# Altium integrated library Analog Devices Clock Generation and Distribution.IntLib: 120 symbols (part 16 of 18)
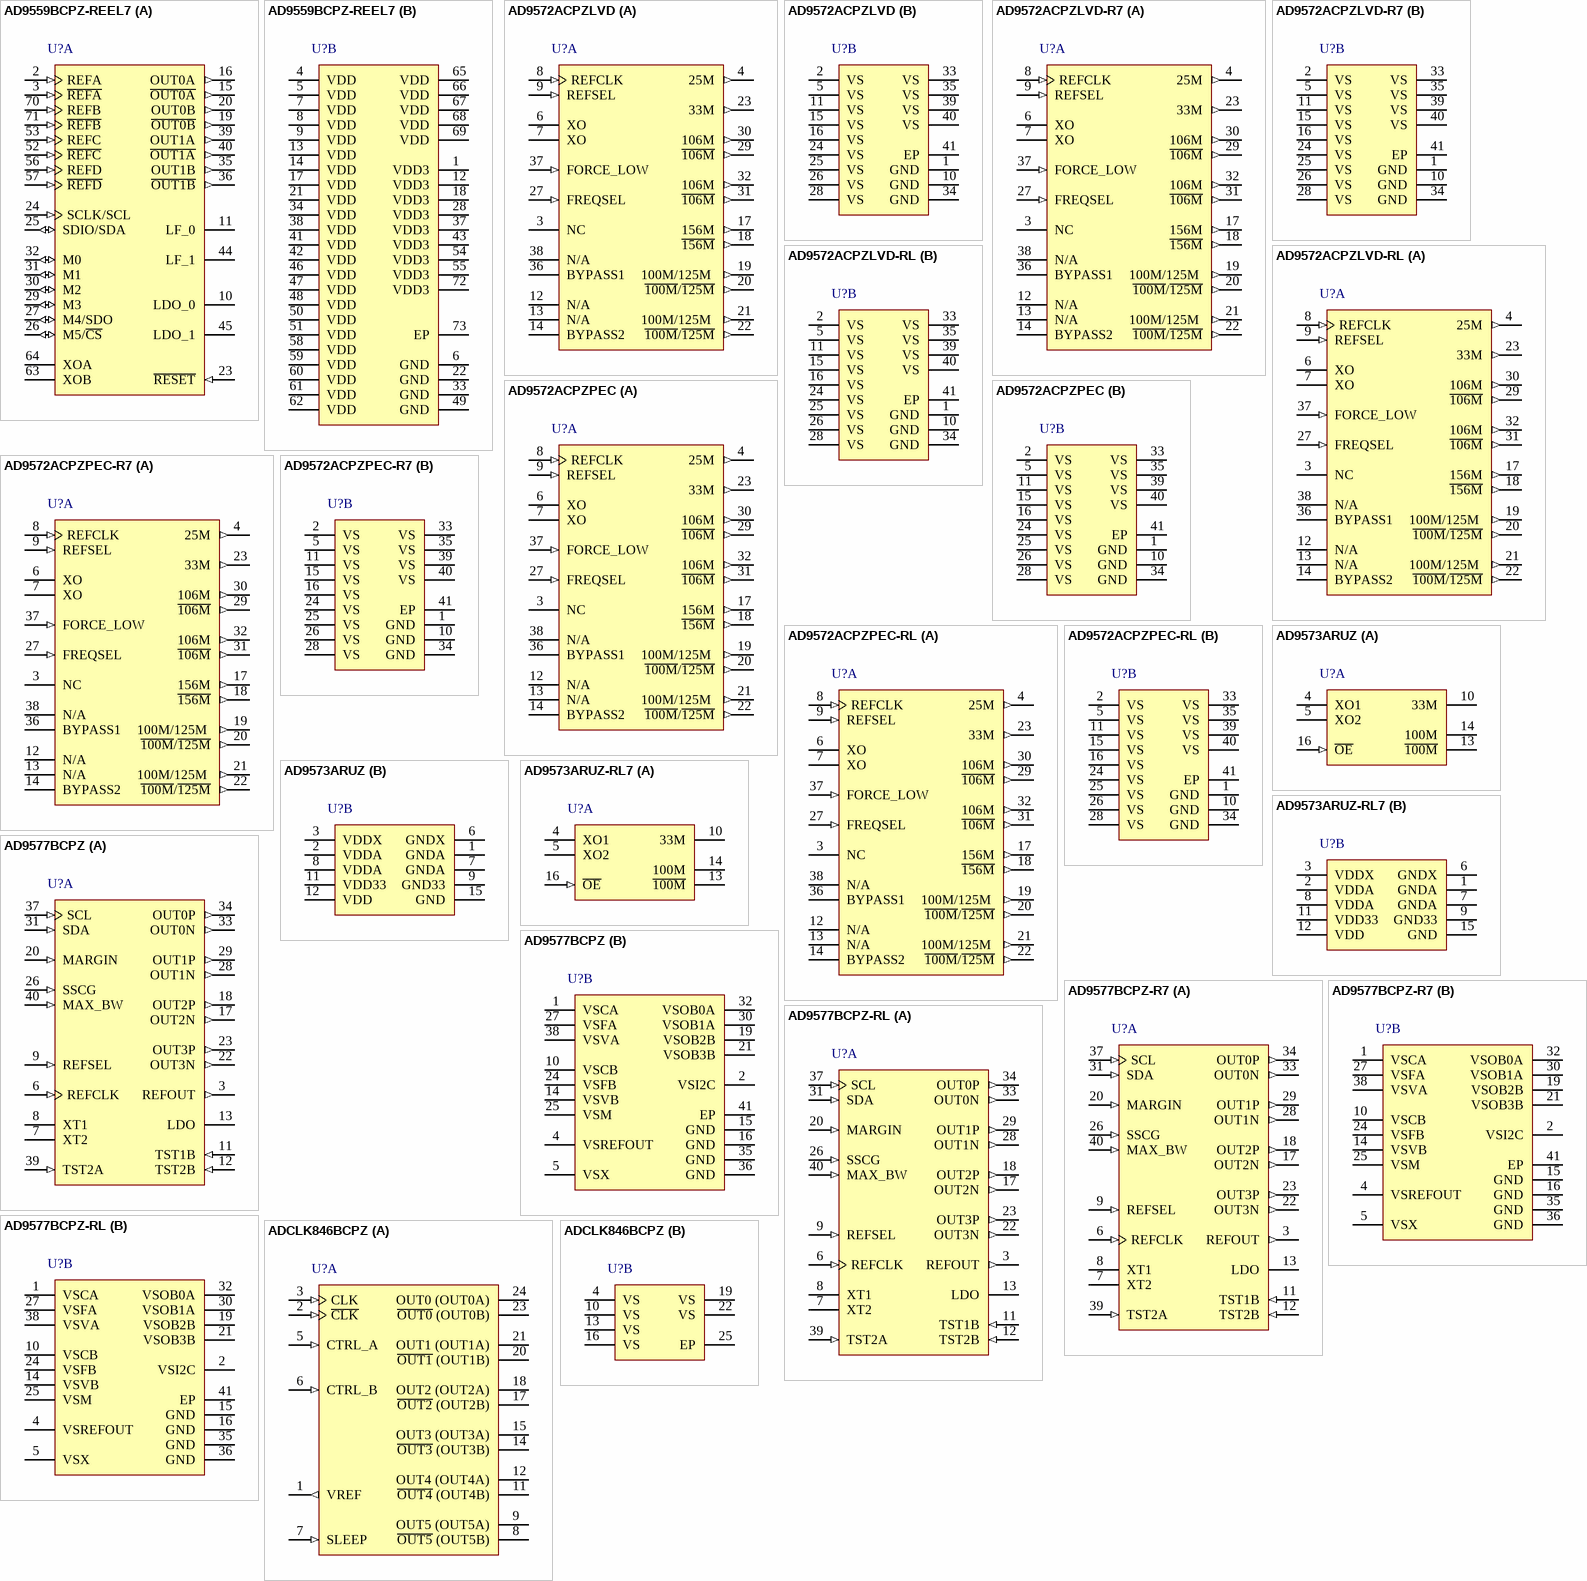
[diagram p27: symbols AD9559BCPZ-REEL7 to ADCLK846BCPZ]

## AD9559BCPZ-REEL7
designator U?
Dual PLL, Quad Input, Multiservice Line Card Adaptive Clock Translator, 3.3 V Supply, Industrial, 72-pin QFN (CP-72-4), Reel; Manufacturer: Analog Devices; PartNumber: AD9559BCPZ-REEL7; # of Inputs: 4; # of Outputs: 8; Supply Voltage (V): 3.3; I/O Interface: Serial; Max f-out: 1.25 GHz; Output Logic: CMOS, LVDS, HSTL; DatasheetVersion: Rev. A; PackageVersion: 06-25-2012-A, 06/2012; PackageReference: CP-72-4; PackageDescription: 72-Pin Lead Frame Chip Scale Package, Body 10 x 10 mm, Pitch 0.5 mm; Supplier 1: Digi-Key; Supplier Part Number 1: AD9559BCPZ-REEL7-ND; Supplier 2: Newark; Supplier Part Number 2: 43W5570; Supplier 3: Mouser; Supplier Part Number 3: 584-AD9559BCPZ-R7; Packing: Reel; Mounting Technology: Surface Mount; Code_JEDEC: MO-220-VNND-4; ComponentLink1Description: Manufacturer URL; ComponentLink1URL: http://www.analog.com/en/index.html; ComponentLink2Description: Datasheet; ComponentLink2URL: http://www.analog.com/static/imported-files/data_sheets/AD9559.pdf; ComponentLink3Description: Package Specification; ComponentLink3URL: http://www.analog.com/static/imported-files/packages/PKG_PDF/LFCSP(CP)/CP_72_4.pdf; ComponentLink4Description: Product URL; ComponentLink4URL: http://www.analog.com/en/clock-and-timing/clock-generation-and-distribution/ad9559/products/product.html
footprint ADI-CP-72-4_N (QFN, 72-Leads, Body 10x10mm, Pitch 0.5mm, Thermal Pad 7.1x7.1mm, IPC Medium Density)
footprint ADI-CP-72-4_L (QFN, 72-Leads, Body 10x10mm, Pitch 0.5mm, Thermal Pad 7.1x7.1mm, IPC High Density)
footprint ADI-CP-72-4_M (QFN, 72-Leads, Body 10x10mm, Pitch 0.5mm, Thermal Pad 7.1x7.1mm, IPC Low Density)
part A pins: 2 REFA (in) "Reference A Input. This internally biased input is typically ac-coupled; when configured in this manner, it can accept any differential signal with single-ended swing up to 3.3 V. If dc-coupled, input can be LVPECL, LVDS, or (See Datasheet)", 3 ~{REFA} (in) "Complementary Reference A Input. Complementary signal to the input provided on Pin 2.", 10 LDO_0 "Output PLL0 Loop Filter Voltage Regulator. Connect a 0.47 uF capacitor from this pin to ground. This pin is also the ac ground reference for the integrated output PLL external loop filter.", 11 LF_0 "Loop Filter Node for the Output PLL0. Connect an external 6.8 nF capacitor from this pin to Pin 10 (LDO_0).", 15 ~{OUT0A} (out) "PLL0 Complementary Output 0A. This output can be configured as HSTL, LVDS, or single-ended 1.8 V CMOS.", 16 OUT0A (out) "PLL0 Output 0A. This output can be configured as HSTL, LVDS, or single-ended 1.8 V CMOS. LVPECL levels can be achieved by ac-coupling and using the Thevenin-equivalent termination as described in the Input/Output Termination (See Datasheet)", 19 ~{OUT0B} (out) "PLL0 Complementary Output 0B. This output can be configured as HSTL, LVDS, or single-ended 1.8 V or 3.3 V CMOS.", 20 OUT0B (out) "PLL0 Output 0B. This output can be configured as HSTL, LVDS, or single-ended 1.8 V or 3.3 V CMOS. LVPECL levels can be achieved by ac-coupling and using the Thevenin-equivalent termination as described in the Input/Output (See Datasheet)", 23 ~{RESET} (in) "Chip Reset. When this active low pin is asserted, the chip goes into reset. This pin has an internal 50 k ohm pull-up resistor.", 24 SCLK/SCL (in) "Serial Programming Clock in SPI Mode (SCLK). Data clock for serial programming. Serial Clock Pin in I2C Mode (SCL).", 25 SDIO/SDA (io) "Serial Data Input/Output (SDIO). When the device is in 4-wire SPI mode, data is written via this pin. In 3-wire SPI mode, data reads and writes both occur on this pin. There is no internal pull-up/pull-down resistor on this (See Datasheet)", 26 M5/~{CS} (io) "Configurable I/O Pin (M5). Used for status and control of the AD9559. Chip Select in SPI Mode (CS). Active low input. When programming a device in SPI, this pin must be held low. In systems where more than one AD9559 is (See Datasheet)", 27 M4/SDO (io) "Configurable I/O Pin (M4). Used for status and control of the AD9559. Serial Data Output (SDO). In 4-wire SPI mode, this pin is used for reading serial data.", 29 M3 (io) "Configurable I/O Pins. These pins are used for status and control of the AD9559.These pins are also used at power-up and reset to control the serial port configuration and EEPROM loading. See Table 23 and Table 25 for more (See Datasheet)", 30 M2 (io) "Configurable I/O Pins. These pins are used for status and control of the AD9559.These pins are also used at power-up and reset to control the serial port configuration and EEPROM loading. See Table 23 and Table 25 for more (See Datasheet)", 31 M1 (io) "Configurable I/O Pins. These pins are used for status and control of the AD9559.These pins are also used at power-up and reset to control the serial port configuration and EEPROM loading. See Table 23 and Table 25 for more (See Datasheet)", 32 M0 (io) "Configurable I/O Pins. These pins are used for status and control of the AD9559.These pins are also used at power-up and reset to control the serial port configuration and EEPROM loading. See Table 23 and Table 25 for more (See Datasheet)", 35 OUT1B (out) "PLL1 Output 1B. This output can be configured as HSTL, LVDS, or single-ended 1.8 V or 3.3 V CMOS. LVPECL levels can be achieved by ac-coupling and using the Thevenin-equivalent termination as described in the Input/Output (See Datasheet)", 36 ~{OUT1B} (out) "PLL1 Complementary Output 1B. This output can be configured as HSTL, LVDS, or single-ended 1.8 V or 3.3 V CMOS.", 39 OUT1A (out) "PLL1 Output 1A. This output can be configured as HSTL, LVDS, or single-ended 1.8 V CMOS. LVPECL levels can be achieved by ac-coupling and using the Thevenin-equivalent termination as described in the Input/Output Termination (See Datasheet)", 40 ~{OUT1A} (out) "PLL1 Complementary Output 1A. This output can be configured as HSTL, LVDS, or single-ended 1.8 V CMOS.", 44 LF_1 "Loop Filter Node for the Output PLL1. Connect an external 6.8 nF capacitor from this pin to Pin 45 (LDO_1).", 45 LDO_1 "Output PLL1 Loop Filter Voltage Regulator. Connect a 0.47 uF capacitor from this pin to ground. This pin is also the ac ground reference for the integrated output PLL external loop filter.", 52 ~{REFC} (in) "Complementary Reference C Input. Complementary signal to the input provided on Pin 53.", 53 REFC (in) "Reference C Input. This internally biased input is typically ac-coupled; when configured in that manner, it can accept any differential signal with single-ended swing up to 3.3 V. If dc-coupled, input can be LVPECL, LVDS, or (See Datasheet)", 56 REFD (in) "Complementary Reference D Input. Complementary signal to the input provided on Pin 57.", 57 ~{REFD} (in) "Reference D Input. This internally biased input is typically ac-coupled; when configured in this manner, it can accept any differential signal with single-ended swing up to 3.3 V. If dc-coupled, input can be LVPECL, LVDS, or (See Datasheet)", 63 XOB "Complementary System Clock Input. Complementary signal to XOA. XOB contains internal dc biasing and should be ac-coupled with a 0.1 uF capacitor except when using a crystal. When a crystal is used, connect the crystal across (See Datasheet)", 64 XOA "System Clock Input. XOA contains internal dc biasing and should be ac-coupled with a 0.01 uF capacitor except when using a crystal. When a crystal is used, connect the crystal across XOA and XOB. Single-ended 1.8 V CMOS is (See Datasheet)", 70 REFB (in) "Reference B Input. This internally biased input is typically ac-coupled; when configured in this manner, it can accept any differential signal with single-ended swing up to 3.3 V. If dc-coupled, input can be LVPECL, LVDS, or (See Datasheet)", 71 ~{REFB} (in) "Complementary Reference B Input. Complementary signal to the input provided on Pin 70."
part B pins: 1 VDD3 (power) "3.3 V Power Supply. See the Power Supply Partitions section for information about the recommended grouping of the power supply pins.", 4 VDD (power) "1.8 V Power Supply. See the Power Supply Partitions section for information about the recommended grouping of the power supply pins. Note that, for Pin 34 and Pin 21, it is recommended that a Size 0201, 0.1 uF bypass (See Datasheet)", 5 VDD (power) "1.8 V Power Supply. See the Power Supply Partitions section for information about the recommended grouping of the power supply pins. Note that, for Pin 34 and Pin 21, it is recommended that a Size 0201, 0.1 uF bypass (See Datasheet)", 6 GND (power) "Connect these pins (along with the exposed die pad) to ground.", 7 VDD (power) "1.8 V Power Supply. See the Power Supply Partitions section for information about the recommended grouping of the power supply pins. Note that, for Pin 34 and Pin 21, it is recommended that a Size 0201, 0.1 uF bypass (See Datasheet)", 8 VDD (power) "1.8 V Power Supply. See the Power Supply Partitions section for information about the recommended grouping of the power supply pins. Note that, for Pin 34 and Pin 21, it is recommended that a Size 0201, 0.1 uF bypass (See Datasheet)", 9 VDD (power) "1.8 V Power Supply. See the Power Supply Partitions section for information about the recommended grouping of the power supply pins. Note that, for Pin 34 and Pin 21, it is recommended that a Size 0201, 0.1 uF bypass (See Datasheet)", 12 VDD3 (power) "3.3 V Power Supply. See the Power Supply Partitions section for information about the recommended grouping of the power supply pins.", 13 VDD (power) "1.8 V Power Supply. See the Power Supply Partitions section for information about the recommended grouping of the power supply pins. Note that, for Pin 34 and Pin 21, it is recommended that a Size 0201, 0.1 uF bypass (See Datasheet)", 14 VDD (power) "1.8 V Power Supply. See the Power Supply Partitions section for information about the recommended grouping of the power supply pins. Note that, for Pin 34 and Pin 21, it is recommended that a Size 0201, 0.1 uF bypass (See Datasheet)", 17 VDD (power) "1.8 V Power Supply. See the Power Supply Partitions section for information about the recommended grouping of the power supply pins. Note that, for Pin 34 and Pin 21, it is recommended that a Size 0201, 0.1 uF bypass (See Datasheet)", 18 VDD3 (power) "3.3 V Power Supply. See the Power Supply Partitions section for information about the recommended grouping of the power supply pins.", 21 VDD (power) "1.8 V Power Supply. See the Power Supply Partitions section for information about the recommended grouping of the power supply pins. Note that, for Pin 34 and Pin 21, it is recommended that a Size 0201, 0.1 uF bypass (See Datasheet)", 22 GND (power) "Connect these pins (along with the exposed die pad) to ground.", 28 VDD3 (power) "3.3 V Power Supply. See the Power Supply Partitions section for information about the recommended grouping of the power supply pins.", 33 GND (power) "Connect these pins (along with the exposed die pad) to ground.", 34 VDD (power) "1.8 V Power Supply. See the Power Supply Partitions section for information about the recommended grouping of the power supply pins. Note that, for Pin 34 and Pin 21, it is recommended that a Size 0201, 0.1 uF bypass (See Datasheet)", 37 VDD3 (power) "3.3 V Power Supply. See the Power Supply Partitions section for information about the recommended grouping of the power supply pins.", 38 VDD (power) "1.8 V Power Supply. See the Power Supply Partitions section for information about the recommended grouping of the power supply pins. Note that, for Pin 34 and Pin 21, it is recommended that a Size 0201, 0.1 uF bypass (See Datasheet)", 41 VDD (power) "1.8 V Power Supply. See the Power Supply Partitions section for information about the recommended grouping of the power supply pins. Note that, for Pin 34 and Pin 21, it is recommended that a Size 0201, 0.1 uF bypass (See Datasheet)", 42 VDD (power) "1.8 V Power Supply. See the Power Supply Partitions section for information about the recommended grouping of the power supply pins. Note that, for Pin 34 and Pin 21, it is recommended that a Size 0201, 0.1 uF bypass (See Datasheet)", 43 VDD3 (power) "3.3 V Power Supply. See the Power Supply Partitions section for information about the recommended grouping of the power supply pins.", 46 VDD (power) "1.8 V Power Supply. See the Power Supply Partitions section for information about the recommended grouping of the power supply pins. Note that, for Pin 34 and Pin 21, it is recommended that a Size 0201, 0.1 uF bypass (See Datasheet)", 47 VDD (power) "1.8 V Power Supply. See the Power Supply Partitions section for information about the recommended grouping of the power supply pins. Note that, for Pin 34 and Pin 21, it is recommended that a Size 0201, 0.1 uF bypass (See Datasheet)", 48 VDD (power) "1.8 V Power Supply. See the Power Supply Partitions section for information about the recommended grouping of the power supply pins. Note that, for Pin 34 and Pin 21, it is recommended that a Size 0201, 0.1 uF bypass (See Datasheet)", 49 GND (power) "Connect these pins (along with the exposed die pad) to ground.", 50 VDD (power) "1.8 V Power Supply. See the Power Supply Partitions section for information about the recommended grouping of the power supply pins. Note that, for Pin 34 and Pin 21, it is recommended that a Size 0201, 0.1 uF bypass (See Datasheet)", 51 VDD (power) "1.8 V Power Supply. See the Power Supply Partitions section for information about the recommended grouping of the power supply pins. Note that, for Pin 34 and Pin 21, it is recommended that a Size 0201, 0.1 uF bypass (See Datasheet)", 54 VDD3 (power) "3.3 V Power Supply. See the Power Supply Partitions section for information about the recommended grouping of the power supply pins.", 55 VDD3 (power) "3.3 V Power Supply. See the Power Supply Partitions section for information about the recommended grouping of the power supply pins.", 58 VDD (power) "1.8 V Power Supply. See the Power Supply Partitions section for information about the recommended grouping of the power supply pins. Note that, for Pin 34 and Pin 21, it is recommended that a Size 0201, 0.1 uF bypass (See Datasheet)", 59 VDD (power) "1.8 V Power Supply. See the Power Supply Partitions section for information about the recommended grouping of the power supply pins. Note that, for Pin 34 and Pin 21, it is recommended that a Size 0201, 0.1 uF bypass (See Datasheet)", 60 VDD (power) "1.8 V Power Supply. See the Power Supply Partitions section for information about the recommended grouping of the power supply pins. Note that, for Pin 34 and Pin 21, it is recommended that a Size 0201, 0.1 uF bypass (See Datasheet)", 61 VDD (power) "1.8 V Power Supply. See the Power Supply Partitions section for information about the recommended grouping of the power supply pins. Note that, for Pin 34 and Pin 21, it is recommended that a Size 0201, 0.1 uF bypass (See Datasheet)", 62 VDD (power) "1.8 V Power Supply. See the Power Supply Partitions section for information about the recommended grouping of the power supply pins. Note that, for Pin 34 and Pin 21, it is recommended that a Size 0201, 0.1 uF bypass (See Datasheet)", 65 VDD (power) "1.8 V Power Supply. See the Power Supply Partitions section for information about the recommended grouping of the power supply pins. Note that, for Pin 34 and Pin 21, it is recommended that a Size 0201, 0.1 uF bypass (See Datasheet)", 66 VDD (power) "1.8 V Power Supply. See the Power Supply Partitions section for information about the recommended grouping of the power supply pins. Note that, for Pin 34 and Pin 21, it is recommended that a Size 0201, 0.1 uF bypass (See Datasheet)", 67 VDD (power) "1.8 V Power Supply. See the Power Supply Partitions section for information about the recommended grouping of the power supply pins. Note that, for Pin 34 and Pin 21, it is recommended that a Size 0201, 0.1 uF bypass (See Datasheet)", 68 VDD (power) "1.8 V Power Supply. See the Power Supply Partitions section for information about the recommended grouping of the power supply pins. Note that, for Pin 34 and Pin 21, it is recommended that a Size 0201, 0.1 uF bypass (See Datasheet)", 69 VDD (power) "1.8 V Power Supply. See the Power Supply Partitions section for information about the recommended grouping of the power supply pins. Note that, for Pin 34 and Pin 21, it is recommended that a Size 0201, 0.1 uF bypass (See Datasheet)", 72 VDD3 (power) "3.3 V Power Supply. See the Power Supply Partitions section for information about the recommended grouping of the power supply pins.", 73 EP (power) "The exposed pad is the ground connection on the chip. It must be soldered to the analog ground of the PCB to ensure proper functionality and heat dissipation, noise, and mechanical strength benefits."

## AD9572ACPZLVD
designator U?
7 Outputs Fiber Channel / Ethernet Clock Generator IC, PLL Core, Dividers, 3.3 V Supply, Industrial, 40-pin QFN (CP-40-7), Tray; Manufacturer: Analog Devices; PartNumber: AD9572ACPZLVD; # of Inputs: 1; # of Outputs: 7; Supply Voltage (V): 3.3; I/O Interface: Pin Select; Max f-out: 156.25 MHz; On-Chip VCO or DCO: Yes; Output Logic: LVDS, LVPECL, CMOS; DatasheetVersion: Rev. B; PackageVersion: 012909-B, 02/2009; PackageReference: CP-40-7; PackageDescription: 40-Pin Lead Frame Chip Scale Package, Body 6 x 6 mm, Pitch 0.5 mm; Supplier 1: Digi-Key; Supplier Part Number 1: AD9572ACPZLVD-ND; Supplier 2: Newark; Supplier Part Number 2: 26R2517; Supplier 3: Mouser; Supplier Part Number 3: 584-AD9572ACPZLVD; Packing: Tray; Mounting Technology: Surface Mount; Code_JEDEC: MO-220-WJJD; ComponentLink1Description: Manufacturer URL; ComponentLink1URL: http://www.analog.com/en/index.html; ComponentLink2Description: Datasheet; ComponentLink2URL: http://www.analog.com/static/imported-files/data_sheets/AD9572.pdf; ComponentLink3Description: Package Specification; ComponentLink3URL: http:/www.analog.com/static/imported-files/packages/PKG_PDF/LFCSP(CP)/CP-40/CP_40_7.pdf; ComponentLink4Description: Product URL; ComponentLink4URL: http://www.analog.com/en/clock-and-timing/clock-generation-and-distribution/ad9572/products/product.html
footprint ADI-CP-40-7_N (QFN, 40-Leads, Body 6x6mm, Pitch 0.5mm, Thermal Pad 4.6x4.6mm, IPC Medium Density)
footprint ADI-CP-40-7_L (QFN, 40-Leads, Body 6x6mm, Pitch 0.5mm, Thermal Pad 4.6x4.6mm, IPC High Density)
footprint ADI-CP-40-7_M (QFN, 40-Leads, Body 6x6mm, Pitch 0.5mm, Thermal Pad 4.6x4.6mm, IPC Low Density)
part A pins: 3 NC "No Connect. This pin should be left floating", 4 25M (out) "CMOS 25 MHz Output", 6 XO "External 25 MHz Crystal", 7 XO "External 25 MHz Crystal", 8 REFCLK (in) "25 MHz Reference Clock Input. Tie low when not in use", 9 REFSEL (in) "Logic Input. Used to select the reference source", 12 N/A "Short to Pin 14", 13 N/A "Short to Pin 14", 14 BYPASS2 "These pins are for bypassing each LDO to ground with a 220 nF capacitor", 17 156M (out) "LVPECL/LVDS Output at 156.25 MHz.", 18 ~{156M} (out) "Complementary LVPECL/LVDS Output at 156.25 MHz", 19 100M/125M  (out) "LVPECL/LVDS Output at 100 MHz or 125 MHz. Selected by FREQSEL pin strapping", 20 ~{100M}/~{125M} (out) "Complementary LVPECL/LVDS Output at 100 MHz or 125 MHz", 21 100M/125M  (out) "LVPECL/LVDS Output at 100 MHz or 125 MHz. Selected by FREQSEL pin strapping", 22 ~{100M}/~{125M} (out) "Complementary LVPECL/LVDS Output at 100 MHz or 125 MHz", 23 33M (out) "CMOS 33.33 MHz Output", 27 FREQSEL (in) "Logic Input. Used to configure output drivers", 29 ~{106M} (out) "LVPECL/LVDS Output at 106.25 MHz", 30 106M (out) "Complementary LVPECL/LVDS Output at 106.25 MHz", 31 ~{106M} (out) "LVPECL/LVDS Output at 106.25 MHz", 32 106M (out) "Complementary LVPECL/LVDS Output at 106.25 MHz", 36 BYPASS1 "These pins are for bypassing each LDO to ground with a 220 nF capacitor", 37 FORCE_LOW (in) "Forces the 33.33 MHz output into a low state", 38 N/A "Short to Pin 36"
part B pins: 1 GND (power) "Ground. Includes external paddle (EPAD)", 2 VS (power) "Power Supply Connection for the 25M CMOS Buffer", 5 VS (power) "Power Supply Connection for the Crystal Oscillator", 10 GND (power) "Ground. Includes external paddle (EPAD)", 11 VS (power) "Power Supply Connection for the GbE PLL", 15 VS (power) "Power Supply Connection for the GbE VCO", 16 VS (power) "Power Supply Connection for the 156M LVDS Output Buffer and Output Dividers", 24 VS (power) "Power Supply Connection for the 33M CMOS Output Buffer and Output Dividers", 25 VS (power) "Power Supply Connection for the 100M/125M LVDS Output Buffer and Output Dividers", 26 VS (power) "Power Supply Connection for the GbE PLL Feedback Divider", 28 VS (power) "Power Supply Connection for the FC PLL Feedback Divider", 33 VS (power) "Power Supply Connection for the 106.25 MHz LVDS Output Buffer and Output Dividers", 34 GND (power) "Ground. Includes external paddle (EPAD)", 35 VS (power) "Power Supply Connection for the FC VCO", 39 VS (power) "Power Supply Connection for the FC PLL", 40 VS (power) "Power Supply Connection for Miscellaneous Logic", 41 EP (power) "Exposed Pad"

## AD9572ACPZLVD-R7
designator U?
7 Outputs Fiber Channel / Ethernet Clock Generator IC, PLL Core, Dividers, 3.3 V Supply, Industrial, 40-pin QFN (CP-40-7), Reel; Manufacturer: Analog Devices; PartNumber: AD9572ACPZLVD-R7; # of Inputs: 1; # of Outputs: 7; Supply Voltage (V): 3.3; I/O Interface: Pin Select; Max f-out: 156.25 MHz; On-Chip VCO or DCO: Yes; Output Logic: LVDS, LVPECL, CMOS; DatasheetVersion: Rev. B; PackageVersion: 012909-B, 02/2009; PackageReference: CP-40-7; PackageDescription: 40-Pin Lead Frame Chip Scale Package, Body 6 x 6 mm, Pitch 0.5 mm; Supplier 1: Digi-Key; Supplier Part Number 1: AD9572ACPZLVD-R7-ND; Supplier 2: Mouser; Supplier Part Number 2: 584-AD9572ACPZLVD-R7; Packing: Reel; Mounting Technology: Surface Mount; Code_JEDEC: MO-220-WJJD; ComponentLink1Description: Manufacturer URL; ComponentLink1URL: http://www.analog.com/en/index.html; ComponentLink2Description: Datasheet; ComponentLink2URL: http://www.analog.com/static/imported-files/data_sheets/AD9572.pdf; ComponentLink3Description: Package Specification; ComponentLink3URL: http:/www.analog.com/static/imported-files/packages/PKG_PDF/LFCSP(CP)/CP-40/CP_40_7.pdf; ComponentLink4Description: Product URL; ComponentLink4URL: http://www.analog.com/en/clock-and-timing/clock-generation-and-distribution/ad9572/products/product.html
footprint ADI-CP-40-7_N (QFN, 40-Leads, Body 6x6mm, Pitch 0.5mm, Thermal Pad 4.6x4.6mm, IPC Medium Density)
footprint ADI-CP-40-7_L (QFN, 40-Leads, Body 6x6mm, Pitch 0.5mm, Thermal Pad 4.6x4.6mm, IPC High Density)
footprint ADI-CP-40-7_M (QFN, 40-Leads, Body 6x6mm, Pitch 0.5mm, Thermal Pad 4.6x4.6mm, IPC Low Density)
part A pins: 3 NC "No Connect. This pin should be left floating", 4 25M (out) "CMOS 25 MHz Output", 6 XO "External 25 MHz Crystal", 7 XO "External 25 MHz Crystal", 8 REFCLK (in) "25 MHz Reference Clock Input. Tie low when not in use", 9 REFSEL (in) "Logic Input. Used to select the reference source", 12 N/A "Short to Pin 14", 13 N/A "Short to Pin 14", 14 BYPASS2 "These pins are for bypassing each LDO to ground with a 220 nF capacitor", 17 156M (out) "LVPECL/LVDS Output at 156.25 MHz.", 18 ~{156M} (out) "Complementary LVPECL/LVDS Output at 156.25 MHz", 19 100M/125M  (out) "LVPECL/LVDS Output at 100 MHz or 125 MHz. Selected by FREQSEL pin strapping", 20 ~{100M}/~{125M} (out) "Complementary LVPECL/LVDS Output at 100 MHz or 125 MHz", 21 100M/125M  (out) "LVPECL/LVDS Output at 100 MHz or 125 MHz. Selected by FREQSEL pin strapping", 22 ~{100M}/~{125M} (out) "Complementary LVPECL/LVDS Output at 100 MHz or 125 MHz", 23 33M (out) "CMOS 33.33 MHz Output", 27 FREQSEL (in) "Logic Input. Used to configure output drivers", 29 ~{106M} (out) "LVPECL/LVDS Output at 106.25 MHz", 30 106M (out) "Complementary LVPECL/LVDS Output at 106.25 MHz", 31 ~{106M} (out) "LVPECL/LVDS Output at 106.25 MHz", 32 106M (out) "Complementary LVPECL/LVDS Output at 106.25 MHz", 36 BYPASS1 "These pins are for bypassing each LDO to ground with a 220 nF capacitor", 37 FORCE_LOW (in) "Forces the 33.33 MHz output into a low state", 38 N/A "Short to Pin 36"
part B pins: 1 GND (power) "Ground. Includes external paddle (EPAD)", 2 VS (power) "Power Supply Connection for the 25M CMOS Buffer", 5 VS (power) "Power Supply Connection for the Crystal Oscillator", 10 GND (power) "Ground. Includes external paddle (EPAD)", 11 VS (power) "Power Supply Connection for the GbE PLL", 15 VS (power) "Power Supply Connection for the GbE VCO", 16 VS (power) "Power Supply Connection for the 156M LVDS Output Buffer and Output Dividers", 24 VS (power) "Power Supply Connection for the 33M CMOS Output Buffer and Output Dividers", 25 VS (power) "Power Supply Connection for the 100M/125M LVDS Output Buffer and Output Dividers", 26 VS (power) "Power Supply Connection for the GbE PLL Feedback Divider", 28 VS (power) "Power Supply Connection for the FC PLL Feedback Divider", 33 VS (power) "Power Supply Connection for the 106.25 MHz LVDS Output Buffer and Output Dividers", 34 GND (power) "Ground. Includes external paddle (EPAD)", 35 VS (power) "Power Supply Connection for the FC VCO", 39 VS (power) "Power Supply Connection for the FC PLL", 40 VS (power) "Power Supply Connection for Miscellaneous Logic", 41 EP (power) "Exposed Pad"

## AD9572ACPZLVD-RL
designator U?
7 Outputs Fiber Channel / Ethernet Clock Generator IC, PLL Core, Dividers, 3.3 V Supply, Industrial, 40-pin QFN (CP-40-7), Reel; Manufacturer: Analog Devices; PartNumber: AD9572ACPZLVD-RL; # of Inputs: 1; # of Outputs: 7; Supply Voltage (V): 3.3; I/O Interface: Pin Select; Max f-out: 156.25 MHz; On-Chip VCO or DCO: Yes; Output Logic: LVDS, LVPECL, CMOS; DatasheetVersion: Rev. B; PackageVersion: 012909-B, 02/2009; PackageReference: CP-40-7; PackageDescription: 40-Pin Lead Frame Chip Scale Package, Body 6 x 6 mm, Pitch 0.5 mm; Supplier 1: Digi-Key; Supplier Part Number 1: AD9572ACPZLVD-RL-ND; Supplier 2: Mouser; Supplier Part Number 2: 584-AD9572ACPZLVD-R; Packing: Reel; Mounting Technology: Surface Mount; Code_JEDEC: MO-220-WJJD; ComponentLink1Description: Manufacturer URL; ComponentLink1URL: http://www.analog.com/en/index.html; ComponentLink2Description: Datasheet; ComponentLink2URL: http://www.analog.com/static/imported-files/data_sheets/AD9572.pdf; ComponentLink3Description: Package Specification; ComponentLink3URL: http:/www.analog.com/static/imported-files/packages/PKG_PDF/LFCSP(CP)/CP-40/CP_40_7.pdf; ComponentLink4Description: Product URL; ComponentLink4URL: http://www.analog.com/en/clock-and-timing/clock-generation-and-distribution/ad9572/products/product.html
footprint ADI-CP-40-7_N (QFN, 40-Leads, Body 6x6mm, Pitch 0.5mm, Thermal Pad 4.6x4.6mm, IPC Medium Density)
footprint ADI-CP-40-7_L (QFN, 40-Leads, Body 6x6mm, Pitch 0.5mm, Thermal Pad 4.6x4.6mm, IPC High Density)
footprint ADI-CP-40-7_M (QFN, 40-Leads, Body 6x6mm, Pitch 0.5mm, Thermal Pad 4.6x4.6mm, IPC Low Density)
part A pins: 3 NC "No Connect. This pin should be left floating", 4 25M (out) "CMOS 25 MHz Output", 6 XO "External 25 MHz Crystal", 7 XO "External 25 MHz Crystal", 8 REFCLK (in) "25 MHz Reference Clock Input. Tie low when not in use", 9 REFSEL (in) "Logic Input. Used to select the reference source", 12 N/A "Short to Pin 14", 13 N/A "Short to Pin 14", 14 BYPASS2 "These pins are for bypassing each LDO to ground with a 220 nF capacitor", 17 156M (out) "LVPECL/LVDS Output at 156.25 MHz.", 18 ~{156M} (out) "Complementary LVPECL/LVDS Output at 156.25 MHz", 19 100M/125M  (out) "LVPECL/LVDS Output at 100 MHz or 125 MHz. Selected by FREQSEL pin strapping", 20 ~{100M}/~{125M} (out) "Complementary LVPECL/LVDS Output at 100 MHz or 125 MHz", 21 100M/125M  (out) "LVPECL/LVDS Output at 100 MHz or 125 MHz. Selected by FREQSEL pin strapping", 22 ~{100M}/~{125M} (out) "Complementary LVPECL/LVDS Output at 100 MHz or 125 MHz", 23 33M (out) "CMOS 33.33 MHz Output", 27 FREQSEL (in) "Logic Input. Used to configure output drivers", 29 ~{106M} (out) "LVPECL/LVDS Output at 106.25 MHz", 30 106M (out) "Complementary LVPECL/LVDS Output at 106.25 MHz", 31 ~{106M} (out) "LVPECL/LVDS Output at 106.25 MHz", 32 106M (out) "Complementary LVPECL/LVDS Output at 106.25 MHz", 36 BYPASS1 "These pins are for bypassing each LDO to ground with a 220 nF capacitor", 37 FORCE_LOW (in) "Forces the 33.33 MHz output into a low state", 38 N/A "Short to Pin 36"
part B pins: 1 GND (power) "Ground. Includes external paddle (EPAD)", 2 VS (power) "Power Supply Connection for the 25M CMOS Buffer", 5 VS (power) "Power Supply Connection for the Crystal Oscillator", 10 GND (power) "Ground. Includes external paddle (EPAD)", 11 VS (power) "Power Supply Connection for the GbE PLL", 15 VS (power) "Power Supply Connection for the GbE VCO", 16 VS (power) "Power Supply Connection for the 156M LVDS Output Buffer and Output Dividers", 24 VS (power) "Power Supply Connection for the 33M CMOS Output Buffer and Output Dividers", 25 VS (power) "Power Supply Connection for the 100M/125M LVDS Output Buffer and Output Dividers", 26 VS (power) "Power Supply Connection for the GbE PLL Feedback Divider", 28 VS (power) "Power Supply Connection for the FC PLL Feedback Divider", 33 VS (power) "Power Supply Connection for the 106.25 MHz LVDS Output Buffer and Output Dividers", 34 GND (power) "Ground. Includes external paddle (EPAD)", 35 VS (power) "Power Supply Connection for the FC VCO", 39 VS (power) "Power Supply Connection for the FC PLL", 40 VS (power) "Power Supply Connection for Miscellaneous Logic", 41 EP (power) "Exposed Pad"

## AD9572ACPZPEC
designator U?
7 Outputs Fiber Channel / Ethernet Clock Generator IC, PLL Core, Dividers, 3.3 V Supply, Industrial, 40-pin QFN (CP-40-7), Tray; Manufacturer: Analog Devices; PartNumber: AD9572ACPZPEC; # of Inputs: 1; # of Outputs: 7; Supply Voltage (V): 3.3; I/O Interface: Pin Select; Max f-out: 156.25 MHz; On-Chip VCO or DCO: Yes; Output Logic: LVDS, LVPECL, CMOS; DatasheetVersion: Rev. B; PackageVersion: 012909-B, 02/2009; PackageReference: CP-40-7; PackageDescription: 40-Pin Lead Frame Chip Scale Package, Body 6 x 6 mm, Pitch 0.5 mm; Supplier 1: Digi-Key; Supplier Part Number 1: AD9572ACPZPEC-ND; Supplier 2: Mouser; Supplier Part Number 2: 584-AD9572ACPZPEC; Packing: Tray; Mounting Technology: Surface Mount; Code_JEDEC: MO-220-WJJD; ComponentLink1Description: Manufacturer URL; ComponentLink1URL: http://www.analog.com/en/index.html; ComponentLink2Description: Datasheet; ComponentLink2URL: http://www.analog.com/static/imported-files/data_sheets/AD9572.pdf; ComponentLink3Description: Package Specification; ComponentLink3URL: http:/www.analog.com/static/imported-files/packages/PKG_PDF/LFCSP(CP)/CP-40/CP_40_7.pdf; ComponentLink4Description: Product URL; ComponentLink4URL: http://www.analog.com/en/clock-and-timing/clock-generation-and-distribution/ad9572/products/product.html
footprint ADI-CP-40-7_N (QFN, 40-Leads, Body 6x6mm, Pitch 0.5mm, Thermal Pad 4.6x4.6mm, IPC Medium Density)
footprint ADI-CP-40-7_L (QFN, 40-Leads, Body 6x6mm, Pitch 0.5mm, Thermal Pad 4.6x4.6mm, IPC High Density)
footprint ADI-CP-40-7_M (QFN, 40-Leads, Body 6x6mm, Pitch 0.5mm, Thermal Pad 4.6x4.6mm, IPC Low Density)
part A pins: 3 NC "No Connect. This pin should be left floating", 4 25M (out) "CMOS 25 MHz Output", 6 XO "External 25 MHz Crystal", 7 XO "External 25 MHz Crystal", 8 REFCLK (in) "25 MHz Reference Clock Input. Tie low when not in use", 9 REFSEL (in) "Logic Input. Used to select the reference source", 12 N/A "Short to Pin 14", 13 N/A "Short to Pin 14", 14 BYPASS2 "These pins are for bypassing each LDO to ground with a 220 nF capacitor", 17 156M (out) "LVPECL/LVDS Output at 156.25 MHz.", 18 ~{156M} (out) "Complementary LVPECL/LVDS Output at 156.25 MHz", 19 100M/125M  (out) "LVPECL/LVDS Output at 100 MHz or 125 MHz. Selected by FREQSEL pin strapping", 20 ~{100M}/~{125M} (out) "Complementary LVPECL/LVDS Output at 100 MHz or 125 MHz", 21 100M/125M  (out) "LVPECL/LVDS Output at 100 MHz or 125 MHz. Selected by FREQSEL pin strapping", 22 ~{100M}/~{125M} (out) "Complementary LVPECL/LVDS Output at 100 MHz or 125 MHz", 23 33M (out) "CMOS 33.33 MHz Output", 27 FREQSEL (in) "Logic Input. Used to configure output drivers", 29 ~{106M} (out) "LVPECL/LVDS Output at 106.25 MHz", 30 106M (out) "Complementary LVPECL/LVDS Output at 106.25 MHz", 31 ~{106M} (out) "LVPECL/LVDS Output at 106.25 MHz", 32 106M (out) "Complementary LVPECL/LVDS Output at 106.25 MHz", 36 BYPASS1 "These pins are for bypassing each LDO to ground with a 220 nF capacitor", 37 FORCE_LOW (in) "Forces the 33.33 MHz output into a low state", 38 N/A "Short to Pin 36"
part B pins: 1 GND (power) "Ground. Includes external paddle (EPAD)", 2 VS (power) "Power Supply Connection for the 25M CMOS Buffer", 5 VS (power) "Power Supply Connection for the Crystal Oscillator", 10 GND (power) "Ground. Includes external paddle (EPAD)", 11 VS (power) "Power Supply Connection for the GbE PLL", 15 VS (power) "Power Supply Connection for the GbE VCO", 16 VS (power) "Power Supply Connection for the 156M LVDS Output Buffer and Output Dividers", 24 VS (power) "Power Supply Connection for the 33M CMOS Output Buffer and Output Dividers", 25 VS (power) "Power Supply Connection for the 100M/125M LVDS Output Buffer and Output Dividers", 26 VS (power) "Power Supply Connection for the GbE PLL Feedback Divider", 28 VS (power) "Power Supply Connection for the FC PLL Feedback Divider", 33 VS (power) "Power Supply Connection for the 106.25 MHz LVDS Output Buffer and Output Dividers", 34 GND (power) "Ground. Includes external paddle (EPAD)", 35 VS (power) "Power Supply Connection for the FC VCO", 39 VS (power) "Power Supply Connection for the FC PLL", 40 VS (power) "Power Supply Connection for Miscellaneous Logic", 41 EP (power) "Exposed Pad"

## AD9572ACPZPEC-R7
designator U?
7 Outputs Fiber Channel / Ethernet Clock Generator IC, PLL Core, Dividers, 3.3 V Supply, Industrial, 40-pin QFN (CP-40-7), Reel; Manufacturer: Analog Devices; PartNumber: AD9572ACPZPEC-R7; # of Inputs: 1; # of Outputs: 7; Supply Voltage (V): 3.3; I/O Interface: Pin Select; Max f-out: 156.25 MHz; On-Chip VCO or DCO: Yes; Output Logic: LVDS, LVPECL, CMOS; DatasheetVersion: Rev. B; PackageVersion: 012909-B, 02/2009; PackageReference: CP-40-7; PackageDescription: 40-Pin Lead Frame Chip Scale Package, Body 6 x 6 mm, Pitch 0.5 mm; Supplier 1: Digi-Key; Supplier Part Number 1: AD9572ACPZPEC-R7-ND; Supplier 2: Mouser; Supplier Part Number 2: 584-AD9572ACPZPEC-R7; Packing: Reel; Mounting Technology: Surface Mount; Code_JEDEC: MO-220-WJJD; ComponentLink1Description: Manufacturer URL; ComponentLink1URL: http://www.analog.com/en/index.html; ComponentLink2Description: Datasheet; ComponentLink2URL: http://www.analog.com/static/imported-files/data_sheets/AD9572.pdf; ComponentLink3Description: Package Specification; ComponentLink3URL: http:/www.analog.com/static/imported-files/packages/PKG_PDF/LFCSP(CP)/CP-40/CP_40_7.pdf; ComponentLink4Description: Product URL; ComponentLink4URL: http://www.analog.com/en/clock-and-timing/clock-generation-and-distribution/ad9572/products/product.html
footprint ADI-CP-40-7_N (QFN, 40-Leads, Body 6x6mm, Pitch 0.5mm, Thermal Pad 4.6x4.6mm, IPC Medium Density)
footprint ADI-CP-40-7_L (QFN, 40-Leads, Body 6x6mm, Pitch 0.5mm, Thermal Pad 4.6x4.6mm, IPC High Density)
footprint ADI-CP-40-7_M (QFN, 40-Leads, Body 6x6mm, Pitch 0.5mm, Thermal Pad 4.6x4.6mm, IPC Low Density)
part A pins: 3 NC "No Connect. This pin should be left floating", 4 25M (out) "CMOS 25 MHz Output", 6 XO "External 25 MHz Crystal", 7 XO "External 25 MHz Crystal", 8 REFCLK (in) "25 MHz Reference Clock Input. Tie low when not in use", 9 REFSEL (in) "Logic Input. Used to select the reference source", 12 N/A "Short to Pin 14", 13 N/A "Short to Pin 14", 14 BYPASS2 "These pins are for bypassing each LDO to ground with a 220 nF capacitor", 17 156M (out) "LVPECL/LVDS Output at 156.25 MHz.", 18 ~{156M} (out) "Complementary LVPECL/LVDS Output at 156.25 MHz", 19 100M/125M  (out) "LVPECL/LVDS Output at 100 MHz or 125 MHz. Selected by FREQSEL pin strapping", 20 ~{100M}/~{125M} (out) "Complementary LVPECL/LVDS Output at 100 MHz or 125 MHz", 21 100M/125M  (out) "LVPECL/LVDS Output at 100 MHz or 125 MHz. Selected by FREQSEL pin strapping", 22 ~{100M}/~{125M} (out) "Complementary LVPECL/LVDS Output at 100 MHz or 125 MHz", 23 33M (out) "CMOS 33.33 MHz Output", 27 FREQSEL (in) "Logic Input. Used to configure output drivers", 29 ~{106M} (out) "LVPECL/LVDS Output at 106.25 MHz", 30 106M (out) "Complementary LVPECL/LVDS Output at 106.25 MHz", 31 ~{106M} (out) "LVPECL/LVDS Output at 106.25 MHz", 32 106M (out) "Complementary LVPECL/LVDS Output at 106.25 MHz", 36 BYPASS1 "These pins are for bypassing each LDO to ground with a 220 nF capacitor", 37 FORCE_LOW (in) "Forces the 33.33 MHz output into a low state", 38 N/A "Short to Pin 36"
part B pins: 1 GND (power) "Ground. Includes external paddle (EPAD)", 2 VS (power) "Power Supply Connection for the 25M CMOS Buffer", 5 VS (power) "Power Supply Connection for the Crystal Oscillator", 10 GND (power) "Ground. Includes external paddle (EPAD)", 11 VS (power) "Power Supply Connection for the GbE PLL", 15 VS (power) "Power Supply Connection for the GbE VCO", 16 VS (power) "Power Supply Connection for the 156M LVDS Output Buffer and Output Dividers", 24 VS (power) "Power Supply Connection for the 33M CMOS Output Buffer and Output Dividers", 25 VS (power) "Power Supply Connection for the 100M/125M LVDS Output Buffer and Output Dividers", 26 VS (power) "Power Supply Connection for the GbE PLL Feedback Divider", 28 VS (power) "Power Supply Connection for the FC PLL Feedback Divider", 33 VS (power) "Power Supply Connection for the 106.25 MHz LVDS Output Buffer and Output Dividers", 34 GND (power) "Ground. Includes external paddle (EPAD)", 35 VS (power) "Power Supply Connection for the FC VCO", 39 VS (power) "Power Supply Connection for the FC PLL", 40 VS (power) "Power Supply Connection for Miscellaneous Logic", 41 EP (power) "Exposed Pad"

## AD9572ACPZPEC-RL
designator U?
7 Outputs Fiber Channel / Ethernet Clock Generator IC, PLL Core, Dividers, 3.3 V Supply, Industrial, 40-pin QFN (CP-40-7), Reel; Manufacturer: Analog Devices; PartNumber: AD9572ACPZPEC-RL; # of Inputs: 1; # of Outputs: 7; Supply Voltage (V): 3.3; I/O Interface: Pin Select; Max f-out: 156.25 MHz; On-Chip VCO or DCO: Yes; Output Logic: LVDS, LVPECL, CMOS; DatasheetVersion: Rev. B; PackageVersion: 012909-B, 02/2009; PackageReference: CP-40-7; PackageDescription: 40-Pin Lead Frame Chip Scale Package, Body 6 x 6 mm, Pitch 0.5 mm; Supplier 1: Digi-Key; Supplier Part Number 1: AD9572ACPZPEC-RL-ND; Supplier 2: Mouser; Supplier Part Number 2: 584-AD9572ACPZPEC-R; Packing: Reel; Mounting Technology: Surface Mount; Code_JEDEC: MO-220-WJJD; ComponentLink1Description: Manufacturer URL; ComponentLink1URL: http://www.analog.com/en/index.html; ComponentLink2Description: Datasheet; ComponentLink2URL: http://www.analog.com/static/imported-files/data_sheets/AD9572.pdf; ComponentLink3Description: Package Specification; ComponentLink3URL: http:/www.analog.com/static/imported-files/packages/PKG_PDF/LFCSP(CP)/CP-40/CP_40_7.pdf; ComponentLink4Description: Product URL; ComponentLink4URL: http://www.analog.com/en/clock-and-timing/clock-generation-and-distribution/ad9572/products/product.html
footprint ADI-CP-40-7_N (QFN, 40-Leads, Body 6x6mm, Pitch 0.5mm, Thermal Pad 4.6x4.6mm, IPC Medium Density)
footprint ADI-CP-40-7_L (QFN, 40-Leads, Body 6x6mm, Pitch 0.5mm, Thermal Pad 4.6x4.6mm, IPC High Density)
footprint ADI-CP-40-7_M (QFN, 40-Leads, Body 6x6mm, Pitch 0.5mm, Thermal Pad 4.6x4.6mm, IPC Low Density)
part A pins: 3 NC "No Connect. This pin should be left floating", 4 25M (out) "CMOS 25 MHz Output", 6 XO "External 25 MHz Crystal", 7 XO "External 25 MHz Crystal", 8 REFCLK (in) "25 MHz Reference Clock Input. Tie low when not in use", 9 REFSEL (in) "Logic Input. Used to select the reference source", 12 N/A "Short to Pin 14", 13 N/A "Short to Pin 14", 14 BYPASS2 "These pins are for bypassing each LDO to ground with a 220 nF capacitor", 17 156M (out) "LVPECL/LVDS Output at 156.25 MHz.", 18 ~{156M} (out) "Complementary LVPECL/LVDS Output at 156.25 MHz", 19 100M/125M  (out) "LVPECL/LVDS Output at 100 MHz or 125 MHz. Selected by FREQSEL pin strapping", 20 ~{100M}/~{125M} (out) "Complementary LVPECL/LVDS Output at 100 MHz or 125 MHz", 21 100M/125M  (out) "LVPECL/LVDS Output at 100 MHz or 125 MHz. Selected by FREQSEL pin strapping", 22 ~{100M}/~{125M} (out) "Complementary LVPECL/LVDS Output at 100 MHz or 125 MHz", 23 33M (out) "CMOS 33.33 MHz Output", 27 FREQSEL (in) "Logic Input. Used to configure output drivers", 29 ~{106M} (out) "LVPECL/LVDS Output at 106.25 MHz", 30 106M (out) "Complementary LVPECL/LVDS Output at 106.25 MHz", 31 ~{106M} (out) "LVPECL/LVDS Output at 106.25 MHz", 32 106M (out) "Complementary LVPECL/LVDS Output at 106.25 MHz", 36 BYPASS1 "These pins are for bypassing each LDO to ground with a 220 nF capacitor", 37 FORCE_LOW (in) "Forces the 33.33 MHz output into a low state", 38 N/A "Short to Pin 36"
part B pins: 1 GND (power) "Ground. Includes external paddle (EPAD)", 2 VS (power) "Power Supply Connection for the 25M CMOS Buffer", 5 VS (power) "Power Supply Connection for the Crystal Oscillator", 10 GND (power) "Ground. Includes external paddle (EPAD)", 11 VS (power) "Power Supply Connection for the GbE PLL", 15 VS (power) "Power Supply Connection for the GbE VCO", 16 VS (power) "Power Supply Connection for the 156M LVDS Output Buffer and Output Dividers", 24 VS (power) "Power Supply Connection for the 33M CMOS Output Buffer and Output Dividers", 25 VS (power) "Power Supply Connection for the 100M/125M LVDS Output Buffer and Output Dividers", 26 VS (power) "Power Supply Connection for the GbE PLL Feedback Divider", 28 VS (power) "Power Supply Connection for the FC PLL Feedback Divider", 33 VS (power) "Power Supply Connection for the 106.25 MHz LVDS Output Buffer and Output Dividers", 34 GND (power) "Ground. Includes external paddle (EPAD)", 35 VS (power) "Power Supply Connection for the FC VCO", 39 VS (power) "Power Supply Connection for the FC PLL", 40 VS (power) "Power Supply Connection for Miscellaneous Logic", 41 EP (power) "Exposed Pad"

## AD9573ARUZ
designator U?
2 Outputs PCI-Express Clock Generator IC, PLL Core, Dividers, 3.3 V Supply, Industrial, 16-pin SOP (RU-16), Tube; Manufacturer: Analog Devices; PartNumber: AD9573ARUZ; # of Inputs: 1; # of Outputs: 2; Supply Voltage (V): 3.3; I/O Interface: Pin Select; Max f-out: 100 MHz; On-Chip VCO or DCO: Yes; Output Logic: LVCMOS, LVDS; DatasheetVersion: Rev. 0; PackageVersion: 11/2002; PackageReference: RU-16; PackageDescription: 16-Pin Thin Shrink Small Outline Package, Body 5 x 4.4 mm, Pitch 0.65 mm; Supplier 1: Digi-Key; Supplier Part Number 1: AD9573ARUZ-ND; Supplier 2: Farnell; Supplier Part Number 2: 2312742; Supplier 3: Newark; Supplier Part Number 3: 26R2523; Supplier 4: Mouser; Supplier Part Number 4: 584-AD9573ARUZ; Packing: Tube; Mounting Technology: Surface Mount; Code_JEDEC: MO-153AB; ComponentLink1Description: Manufacturer URL; ComponentLink1URL: http://www.analog.com/en/index.html; ComponentLink2Description: Datasheet; ComponentLink2URL: http://www.analog.com/static/imported-files/data_sheets/AD9573.pdf; ComponentLink3Description: Package Specification; ComponentLink3URL: http:/www.analog.com/static/imported-files/packages/36244347913743854010197452789RU16.pdf; ComponentLink4Description: Product URL; ComponentLink4URL: http://www.analog.com/en/clock-and-timing/clock-generation-and-distribution/ad9573/products/product.html
footprint ADI-RU-16_N (SOP, 16-Leads, Body 5x4.4mm, Pitch 0.65mm, IPC Medium Density)
footprint ADI-RU-16_L (SOP, 16-Leads, Body 5x4.4mm, Pitch 0.65mm, IPC High Density)
footprint ADI-RU-16_M (SOP, 16-Leads, Body 5x4.4mm, Pitch 0.65mm, IPC Low Density)
part A pins: 4 XO1 "External 25 MHz Crystal.", 5 XO2 "External 25 MHz Crystal.", 10 33M (hiz) "LVCMOS Output at 33.33 MHz.", 13 ~{100M} (hiz) "Complementary LVDS Output at 100 MHz.", 14 100M (hiz) "LVDS Output at 100 MHz.", 16 ~{OE} (in) "Output Enable (Active Low). Places both outputs in a high impedance state when high. This pin has a 50 kohm internal pull-down resistor."
part B pins: 1 GNDA (power) "Analog Ground.", 2 VDDA (power) "Analog Power Supply (3.3 V).", 3 VDDX (power) "Crystal Oscillator Power Supply.", 6 GNDX (power) "Crystal Oscillator Ground.", 7 GNDA (power) "Analog Ground.", 8 VDDA (power) "Analog Power Supply (3.3 V).", 9 GND33 (power) "Ground for LVCMOS Output.", 11 VDD33 (power) "Power Supply for LVCMOS Output.", 12 VDD (power) "Power Supply for LVDS Output.", 15 GND (power) "Ground for LVDS Output."

## AD9573ARUZ-RL7
designator U?
2 Outputs PCI-Express Clock Generator IC, PLL Core, Dividers, 3.3 V Supply, Industrial, 16-pin SOP (RU-16), Reel; Manufacturer: Analog Devices; PartNumber: AD9573ARUZ-RL7; # of Inputs: 1; # of Outputs: 2; Supply Voltage (V): 3.3; I/O Interface: Pin Select; Max f-out: 100 MHz; On-Chip VCO or DCO: Yes; Output Logic: LVCMOS, LVDS; DatasheetVersion: Rev. 0; PackageVersion: 11/2002; PackageReference: RU-16; PackageDescription: 16-Pin Thin Shrink Small Outline Package, Body 5 x 4.4 mm, Pitch 0.65 mm; Supplier 1: Digi-Key; Supplier Part Number 1: AD9573ARUZ-RL7-ND; Supplier 2: Mouser; Supplier Part Number 2: 584-AD9573ARUZ-R7; Packing: Reel; Mounting Technology: Surface Mount; Code_JEDEC: MO-153AB; ComponentLink1Description: Manufacturer URL; ComponentLink1URL: http://www.analog.com/en/index.html; ComponentLink2Description: Datasheet; ComponentLink2URL: http://www.analog.com/static/imported-files/data_sheets/AD9573.pdf; ComponentLink3Description: Package Specification; ComponentLink3URL: http:/www.analog.com/static/imported-files/packages/36244347913743854010197452789RU16.pdf; ComponentLink4Description: Product URL; ComponentLink4URL: http://www.analog.com/en/clock-and-timing/clock-generation-and-distribution/ad9573/products/product.html
footprint ADI-RU-16_N (SOP, 16-Leads, Body 5x4.4mm, Pitch 0.65mm, IPC Medium Density)
footprint ADI-RU-16_L (SOP, 16-Leads, Body 5x4.4mm, Pitch 0.65mm, IPC High Density)
footprint ADI-RU-16_M (SOP, 16-Leads, Body 5x4.4mm, Pitch 0.65mm, IPC Low Density)
part A pins: 4 XO1 "External 25 MHz Crystal.", 5 XO2 "External 25 MHz Crystal.", 10 33M (hiz) "LVCMOS Output at 33.33 MHz.", 13 ~{100M} (hiz) "Complementary LVDS Output at 100 MHz.", 14 100M (hiz) "LVDS Output at 100 MHz.", 16 ~{OE} (in) "Output Enable (Active Low). Places both outputs in a high impedance state when high. This pin has a 50 kohm internal pull-down resistor."
part B pins: 1 GNDA (power) "Analog Ground.", 2 VDDA (power) "Analog Power Supply (3.3 V).", 3 VDDX (power) "Crystal Oscillator Power Supply.", 6 GNDX (power) "Crystal Oscillator Ground.", 7 GNDA (power) "Analog Ground.", 8 VDDA (power) "Analog Power Supply (3.3 V).", 9 GND33 (power) "Ground for LVCMOS Output.", 11 VDD33 (power) "Power Supply for LVCMOS Output.", 12 VDD (power) "Power Supply for LVDS Output.", 15 GND (power) "Ground for LVDS Output."